# EAGLE library part HI9P0201-5Z (library Intersil_By_element14_Batch_1)
Precision Quad Comparators
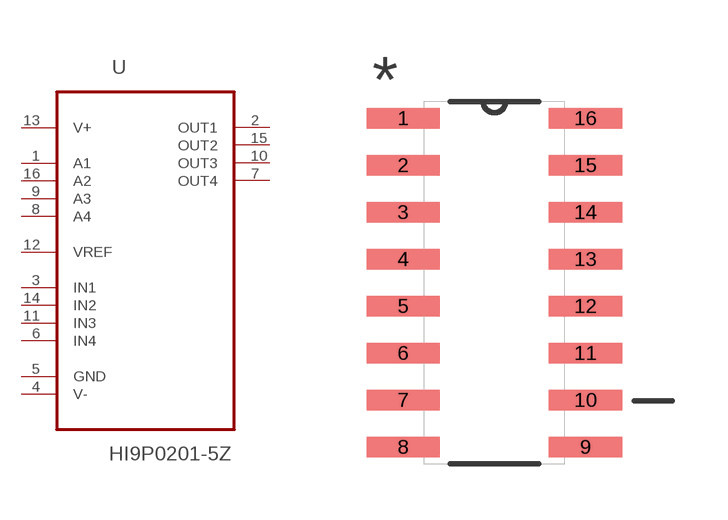
[diagram p133: symbol with the pads of SOIC127P600X175-16N; footprint SOIC127P600X175-16N]

Designator prefix U

## HI9P0201-5Z (MPN: HA9P4905-5Z; OC_FARNELL: 1158324; OC_NEWARK: 61J6056; PACKAGE: SOIC-16; SUPPLIER: INTERSIL)  [SOIC127P600X175-16N]
1  A1  in
2  OUT1  out
3  IN1  in
4  V-  pwr
5  GND  pas
6  IN4  in
7  OUT4  out
8  A4  in
9  A3  in
10  OUT3  out
11  IN3  in
12  VREF  in
13  V+  pwr
14  IN2  in
15  OUT2  out
16  A2  in

## Footprint SOIC127P600X175-16N (pad centres in mm)
smd 1.981 x 0.559: 1 -2.464,4.445; 2 -2.464,3.175; 3 -2.464,1.905; 4 -2.464,0.635; 5 -2.464,-0.635; 6 -2.464,-1.905; 7 -2.464,-3.175; 8 -2.464,-4.445; 9 2.464,-4.445; 10 2.464,-3.175; 11 2.464,-1.905; 12 2.464,-0.635; 13 2.464,0.635; 14 2.464,1.905; 15 2.464,3.175; 16 2.464,4.445